# Altium footprint library SOT-23 inverted 2.PcbLib: 1 footprints
Each footprint in its own frame and in the unit in brackets; x right, y up, seen from the top. Pads: shape width x height; smd on the part's side, far side on the other; paste and mask are expansions set on the pad; w line width, h text height; cw(c..) or ccw(c..) is an arc to the next point about the centre after c.
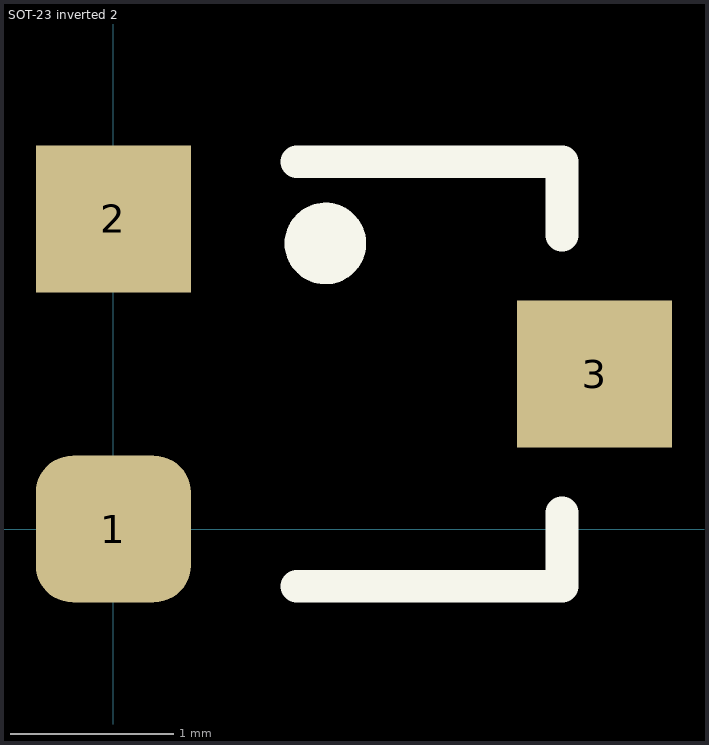
[diagram p0: the footprint, top view; thin cyan lines are the x and y axes]

## SOT-23 inverted 2 [mm]
pads (3):
  rrect50% 0.95x0.9 smd: 1(0,0)
  rect 0.95x0.9 smd: 2(0,1.9) 3(2.95,0.95)
Top Overlay:
  circle w0.25: c1.3,1.75 r0.125
  lines w0.2: 1.125,-0.35 2.75,-0.35 2.75,0.1 ; 1.125,2.25 2.75,2.25 2.75,1.8
3D body "SOT23.STEP": height 0.12, standoff -0.98, extent 0.25,-0.55 2.75,2.45